# Altium schematic symbol library SCHLibrary.SchLib: 6 symbols
Pins are listed as number, name and electrical type; pins without a type are passive.

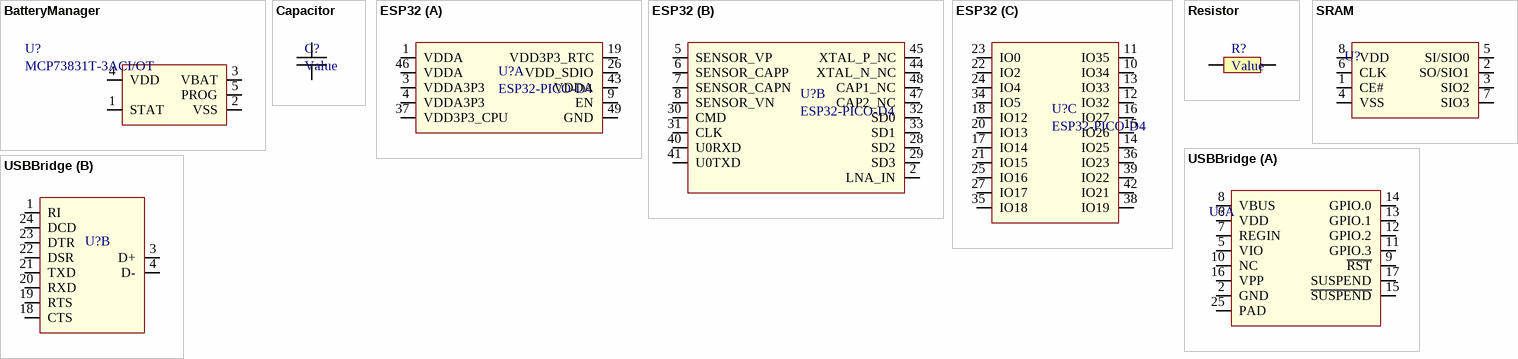
[diagram p0: symbols BatteryManager to USBBridge]

## BatteryManager
designator U?, comment MCP73831T-3ACI/OT
Gestion de batterie/pile Charge mgnt contr; Manufacturer 1: Microchip Technology; Supplier 1: Arrow Electronics; Supplier Part Number 1: MCP73831T-3ACI/OT; Manufacturer Part Number 1: MCP73831T-3ACI/OT
footprint SOT95P280X145-5N (SOT23, 5-Leads, Body 2,90x2,80mm, Pitch 0,95mm, IPC Medium Density)
pins: 1 STAT, 2 VSS, 3 VBAT, 4 VDD, 5 PROG

## Capacitor
designator C?, comment Value
footprint CAPC1005X06N (Chip Capacitor, 2-Leads, Body 1,00x0,50mm, IPC Medium Density)
pins: 1, 2

## ESP32
designator U?, comment ESP32-PICO-D4
Système RF sur puce - SoC SIP module ESP32 with 4MByte Flash, Dual Core MCU, Wi-Fi & Bluetooth Combo, LGA48-pin, 7*7mm; Manufacturer 1: Espressif Systems; Supplier 1: Digi-Key; Supplier Part Number 1: 1904-1029-1-ND; Manufacturer Part Number 1: ESP32-PICO-D4
footprint PQFN50P700X700X104_HS-49N (PQFN, 48-Leads, Body 7,00x7,00mm, Pitch 0,50mm, Thermal Pad 5,40x5,40mm, IPC Medium Density)
part A pins: 1 VDDA, 3 VDDA3P3, 4 VDDA3P3, 9 EN, 19 VDD3P3_RTC, 26 VDD_SDIO, 37 VDD3P3_CPU, 43 VDDA, 46 VDDA, 49 GND
part B pins: 2 LNA_IN, 5 SENSOR_VP, 6 SENSOR_CAPP, 7 SENSOR_CAPN, 8 SENSOR_VN, 28 SD2, 29 SD3, 30 CMD, 31 CLK, 32 SD0, 33 SD1, 40 U0RXD, 41 U0TXD, 44 XTAL_N_NC, 45 XTAL_P_NC, 47 CAP2_NC, 48 CAP1_NC
part C pins: 10 IO34, 11 IO35, 12 IO32, 13 IO33, 14 IO25, 15 IO26, 16 IO27, 17 IO14, 18 IO12, 20 IO13, 21 IO15, 22 IO2, 23 IO0, 24 IO4, 25 IO16, 27 IO17, 34 IO5, 35 IO18, 36 IO23, 38 IO19, 39 IO22, 42 IO21

## Resistor
designator R?, comment Value
footprint RESC1005X06N (Chip Resistor, 2-Leads, Body 1,00x0,50mm, IPC Medium Density)
pins: 1, 2

## SRAM
designator U?, comment IS66WVS1M8BLL-104NLI  (value not drawn)
SRAM 8Mb, SerialRAM, 2.7V-3.6V, 104MHz, 8 pin SOIC 150 mil, RoHS; Manufacturer 1: ISSI; Supplier 1: Digi-Key; Supplier Part Number 1: 706-IS66WVS1M8BLL-104NLI-ND; Manufactuer Part Number 1: IS66WVS1M8BLL-104NLI
footprint SOIC127P600X175-8N (SOIC, 8-Leads, Body 4,90x3,90mm, Pitch 1,27mm, IPC Medium Density)
pins: 1 CE#, 2 SO/SIO1, 3 SIO2, 4 VSS, 5 SI/SIO0, 6 CLK, 7 SIO3, 8 VDD

## USBBridge
designator U?, comment CP2104-F03-GM  (value not drawn)
USB Bridge, USB to UART USB 2.0 UART Interface 24-QFN (4x4); Manufacturer 1: Silicon Labs; Supplier 1: Arrow Electronics; Supplier Part Number 1: CP2104-F03-GM; Manufacturer Part Number 1: CP2104-F03-GM
footprint PQFN50P400X400X80_HS-25N (PQFN, 24-Leads, Body 4,00x4,00mm, Pitch 0,50mm, Thermal Pad 2,65x2,65mm, IPC Medium Density)
part A pins: 2 GND, 5 VIO, 6 VDD, 7 REGIN, 8 VBUS, 9 ~{RST}, 10 NC, 11 GPIO.3, 12 GPIO.2, 13 GPIO.1, 14 GPIO.0, 15 ~{SUSPEND}, 16 VPP, 17 SUSPEND, 25 PAD
part B pins: 1 RI, 3 D+, 4 D-, 18 CTS, 19 RTS, 20 RXD, 21 TXD, 22 DSR, 23 DTR, 24 DCD